# Altium schematic symbol library AZ733-2CE-12DE.SchLib: 2 symbols
Pins are listed as number, name and electrical type; pins without a type are passive.

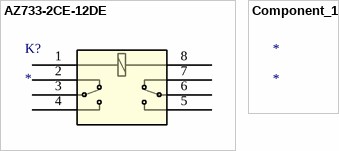
[diagram p0: symbols AZ733-2CE-12DE to Component_1]

## AZ733-2CE-12DE
designator K?
No Description Available; Mfr_Name: American Zettler; Type: Power Relays; RefDes: RefDes
footprint AZ733-2C_AMZ
pins: 1, 2, 3, 4, 5, 6, 7, 8

## Component_1
designator *